# Altium footprint library MDBT50Q-ATMS_52833_230606.PcbLib: 2 footprints
Each footprint in its own frame and in the unit in brackets; x right, y up, seen from the top. Pads: shape width x height; smd on the part's side, far side on the other; paste and mask are expansions set on the pad; w line width, h text height; cw(c..) or ccw(c..) is an arc to the next point about the centre after c.
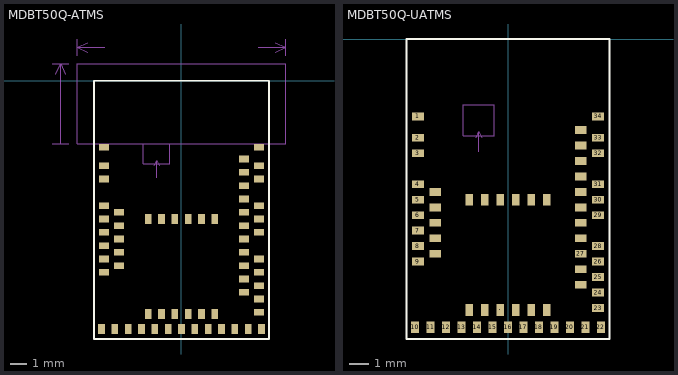
[diagram p0: the footprints below, top view; thin cyan lines are the x and y axes]

## MDBT50Q-ATMS [mm] "MDBT50Q-ATMS_PATMS(52833)"
pads (61):
  rect 0.6x0.4 smd mask+0.05: 1(-4.65,-4) 2(-4.65,-5.1) 3(-4.65,-5.9) 4(-4.65,-7.5) 5(-4.65,-8.3) 6(-4.65,-9.1) 7(-4.65,-9.9) 8(-4.65,-10.7) 9(-4.65,-11.5) 23(4.65,-13.9) 24(4.65,-13.1) 25(4.65,-12.3) 26(4.65,-11.5) 27(3.75,-11.1) 28(4.65,-10.7) 29(4.65,-9.1) 30(4.65,-8.3) 31(4.65,-7.5) 32(4.65,-5.9) 33(4.65,-5.1) 34(4.65,-4) ""(-3.75,-11.1) ""(-3.75,-10.3) ""(-3.75,-9.5) ""(-3.75,-8.7) ""(-3.75,-7.9) ""(3.75,-12.7) ""(3.75,-11.9) ""(3.75,-10.3) ""(3.75,-9.5) ""(3.75,-8.7) ""(3.75,-7.9) ""(3.75,-7.1) ""(3.75,-6.3) ""(3.75,-5.5) ""(3.75,-4.7)
  rect 0.4x0.6 smd mask+0.05: 10(-4.8,-14.9) 11(-4,-14.9) 12(-3.2,-14.9) 13(-2.4,-14.9) 14(-1.6,-14.9) 15(-0.8,-14.9) 16(0,-14.9) 17(0.8,-14.9) 18(1.6,-14.9) 19(2.4,-14.9) 20(3.2,-14.9) 21(4,-14.9) 22(4.8,-14.9) .(-0.4,-14) ""(-2,-14) ""(-2,-8.3) ""(-1.2,-14) ""(-1.2,-8.3) ""(-0.4,-8.3) ""(0.4,-14) ""(0.4,-8.3) ""(1.2,-14) ""(1.2,-8.3) ""(2,-14) ""(2,-8.3)
Top Overlay:
  lines w0.1: -5.25,-15.5 5.25,-15.5 5.25,0 0,0 -5.25,0 -5.25,-15.5
Mechanical 2:
  lines w0.05: -7.75,-3.8 -6.75,-3.8 ; -7.75,1 -6.75,1 ; -7.53,0.39 -7.25,1 ; -7.25,-3.8 -7.25,1 ; -6.97,0.39 -7.25,1 ; -6.25,1.5 -6.25,2.5 ; -5.64,1.72 -6.25,2 ; -5.64,2.28 -6.25,2 ; -4.6,2 -6.25,2 ; 4.6,2 6.25,2 ; 5.64,1.72 6.25,2 ; 5.64,2.28 6.25,2 ; 6.25,1.5 6.25,2.5 ; -6.25,-3.8 -6.25,1 6.25,1 6.25,-3.8 -6.25,-3.8
  text "as wide as possible" at -4.075,1.85 h0.45
  text "as wide as possible" at -7.95,-3.625 h0.3
  text "No ground pad" at -2.801,-1.775 h0.45
Mechanical 3:
  lines w0.05: -1.65,-5.098 -1.5,-4.798 ; -1.5,-5.823 -1.5,-4.798 ; -1.35,-5.098 -1.5,-4.798 ; -2.3,-5 -2.3,-3.8 -0.7,-3.8 -0.7,-5 -2.3,-5
  text "Toplayer no ground pad" at -3.4,-6.225 h0.3

## MDBT50Q-UATMS [mm] "MDBT50Q-UATMS(52833)"
pads (61):
  rect 0.6x0.4 smd mask+0.05: 1(-4.65,-4) 2(-4.65,-5.1) 3(-4.65,-5.9) 4(-4.65,-7.5) 5(-4.65,-8.3) 6(-4.65,-9.1) 7(-4.65,-9.9) 8(-4.65,-10.7) 9(-4.65,-11.5) 23(4.65,-13.9) 24(4.65,-13.1) 25(4.65,-12.3) 26(4.65,-11.5) 27(3.75,-11.1) 28(4.65,-10.7) 29(4.65,-9.1) 30(4.65,-8.3) 31(4.65,-7.5) 32(4.65,-5.9) 33(4.65,-5.1) 34(4.65,-4) ""(-3.75,-11.1) ""(-3.75,-10.3) ""(-3.75,-9.5) ""(-3.75,-8.7) ""(-3.75,-7.9) ""(3.75,-12.7) ""(3.75,-11.9) ""(3.75,-10.3) ""(3.75,-9.5) ""(3.75,-8.7) ""(3.75,-7.9) ""(3.75,-7.1) ""(3.75,-6.3) ""(3.75,-5.5) ""(3.75,-4.7)
  rect 0.4x0.6 smd mask+0.05: 10(-4.8,-14.9) 11(-4,-14.9) 12(-3.2,-14.9) 13(-2.4,-14.9) 14(-1.6,-14.9) 15(-0.8,-14.9) 16(0,-14.9) 17(0.8,-14.9) 18(1.6,-14.9) 19(2.4,-14.9) 20(3.2,-14.9) 21(4,-14.9) 22(4.8,-14.9) .(-0.4,-14) ""(-2,-14) ""(-2,-8.3) ""(-1.2,-14) ""(-1.2,-8.3) ""(-0.4,-8.3) ""(0.4,-14) ""(0.4,-8.3) ""(1.2,-14) ""(1.2,-8.3) ""(2,-14) ""(2,-8.3)
Top Overlay:
  lines w0.1: -5.25,-15.5 5.25,-15.5 5.25,0 0,0 -5.25,0 -5.25,-15.5
Mechanical 3:
  lines w0.05: -1.65,-5.098 -1.5,-4.798 ; -1.5,-5.823 -1.5,-4.798 ; -1.35,-5.098 -1.5,-4.798 ; -2.3,-5 -2.3,-3.4 -0.7,-3.4 -0.7,-5 -2.3,-5
  text "Toplayer no ground pad" at -3.4,-6.225 h0.3